# Altium footprint library OSCCC320X250X60N.PcbLib: 1 footprints
Each footprint in its own frame and in the unit in brackets; x right, y up, seen from the top. Pads: shape width x height; smd on the part's side, far side on the other; paste and mask are expansions set on the pad; w line width, h text height; cw(c..) or ccw(c..) is an arc to the next point about the centre after c.
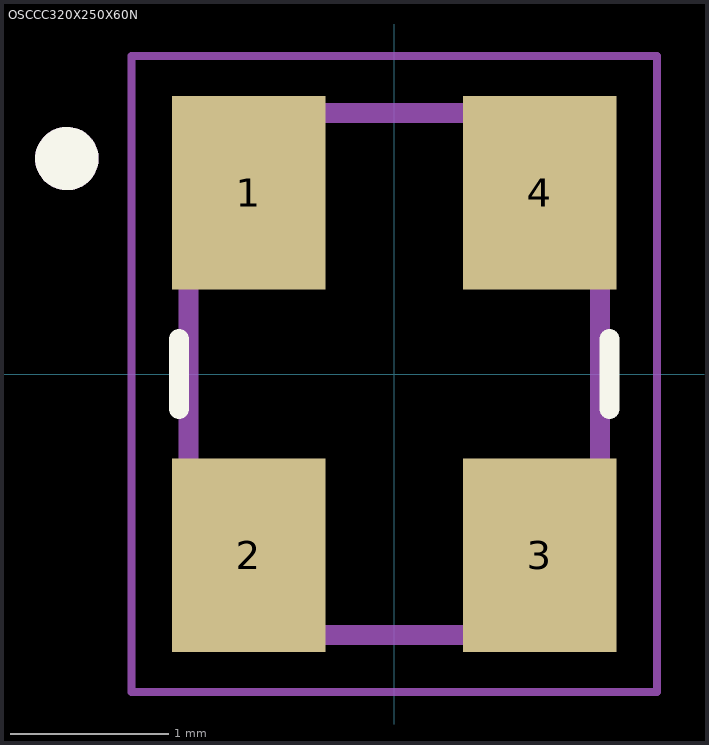
[diagram p0: the footprint, top view; thin cyan lines are the x and y axes]

## OSCCC320X250X60N [mm]
pads (4):
  rect 0.97x1.22 smd: 1(-0.92,1.145) 2(-0.92,-1.145) 3(0.92,-1.145) 4(0.92,1.145)
Top Overlay:
  circle w0.2: c-2.068,1.361 r0.1
  lines w0.127: -1.36,-0.22 -1.36,0.22 ; 1.36,-0.22 1.36,0.22
Mechanical 13:
  circle w0.2: c-2.068,1.361 r0.1
  lines w0.127: -1.3,-1.65 1.3,-1.65 1.3,1.65 -1.3,1.65 -1.3,-1.65
Mechanical 15:
  lines w0.05: -1.66,-2.01 1.66,-2.01 1.66,2.01 -1.66,2.01 -1.66,-2.01